# EAGLE library part AS-ITM-00194 (library tinycircuits)
RF TRANSCEIVER SI4432 433 MHZ
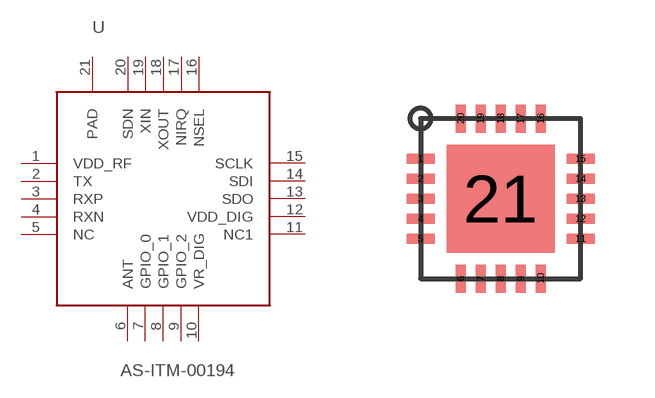
[diagram p83: symbol with the pads of QFN20; footprint QFN20]

Designator prefix U

## AS-ITM-00194 (PARTNO: AS-ITM-00194; VALUE: SI4432-B1-FM)  [QFN20]
1  VDD_RF
2  TX
3  RXP
4  RXN
5  NC
6  ANT
7  GPIO_0
8  GPIO_1
9  GPIO_2
10  VR_DIG
11  NC1
12  VDD_DIG
13  SDO
14  SDI
15  SCLK
16  NSEL
17  NIRQ
18  XOUT
19  XIN
20  SDN
21  PAD

## Footprint QFN20 (pad centres in mm)
smd 0.7 x 0.25: 1 -2,1; 2 -2,0.5; 3 -2,0; 4 -2,-0.5; 5 -2,-1; 11 2,-1; 12 2,-0.5; 13 2,0; 14 2,0.5; 15 2,1
smd 0.25 x 0.7: 6 -1,-2; 7 -0.5,-2; 8 0,-2; 9 0.5,-2; 10 1,-2; 16 1,2; 17 0.5,2; 18 0,2; 19 -0.5,2; 20 -1,2
smd 2.7 x 2.7: 21 0,0